# EAGLE library part DAC8168IAPW (library DAC8168_14)
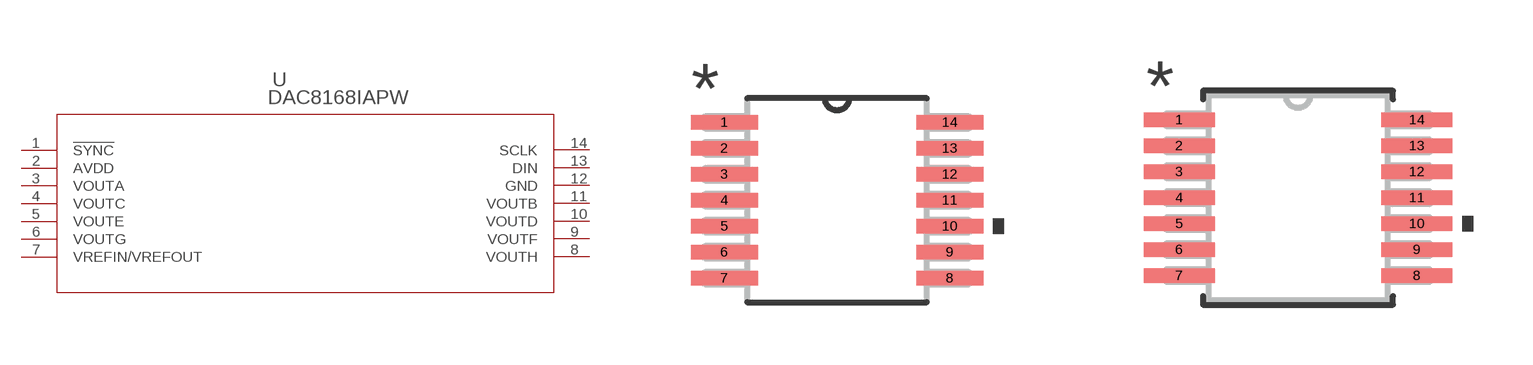
[diagram p0: symbol with the pads of PW14; footprints PW14, PW14-M]

Designator prefix U

## DAC8168IAPWPW14 (Copyright: Copyright (C) 2022 Ultra Librarian. All rights reserved.; Manufacturer_Part_Number: DAC8168IAPW; Mfr_Name: Texas Instruments)  [PW14]
1  !SYNC  in
2  AVDD  pwr
3  VOUTA  out
4  VOUTC  out
5  VOUTE  out
6  VOUTG  out
7  VREFIN/VREFOUT
8  VOUTH  out
9  VOUTF  out
10  VOUTD  out
11  VOUTB  out
12  GND  pwr
13  DIN  in
14  SCLK  in

## DAC8168IAPWPW14-M (Copyright: Copyright (C) 2022 Ultra Librarian. All rights reserved.; Manufacturer_Part_Number: DAC8168IAPW; Mfr_Name: Texas Instruments)  [PW14-M]
Pads as for PW14

## DAC8168IAPWPW14-L (Copyright: Copyright (C) 2022 Ultra Librarian. All rights reserved.; Manufacturer_Part_Number: DAC8168IAPW; Mfr_Name: Texas Instruments)  [PW14-L]
Pads as for PW14

## Footprint PW14 (pad centres in mm)
smd 1.676 x 0.356: 1 -2.819,1.95; 2 -2.819,1.3; 3 -2.819,0.65; 4 -2.819,0; 5 -2.819,-0.65; 6 -2.819,-1.3; 7 -2.819,-1.95; 8 2.819,-1.95; 9 2.819,-1.3; 10 2.819,-0.65; 11 2.819,0; 12 2.819,0.65; 13 2.819,1.3; 14 2.819,1.95

## Footprint PW14-M (pad centres in mm)
smd 1.778 x 0.356: 1 -2.972,1.95; 2 -2.972,1.3; 3 -2.972,0.65; 4 -2.972,0; 5 -2.972,-0.65; 6 -2.972,-1.3; 7 -2.972,-1.95; 8 2.972,-1.95; 9 2.972,-1.3; 10 2.972,-0.65; 11 2.972,0; 12 2.972,0.65; 13 2.972,1.3; 14 2.972,1.95

## Footprint PW14-L (pad centres in mm)
smd 1.168 x 0.305: 1 -2.87,1.95; 2 -2.87,1.3; 3 -2.87,0.65; 4 -2.87,0; 5 -2.87,-0.65; 6 -2.87,-1.3; 7 -2.87,-1.95; 8 2.87,-1.95; 9 2.87,-1.3; 10 2.87,-0.65; 11 2.87,0; 12 2.87,0.65; 13 2.87,1.3; 14 2.87,1.95